# Altium schematic symbol library SX1257IWLTRT.SchLib: 2 symbols
Pins are listed as number, name and electrical type; pins without a type are passive.

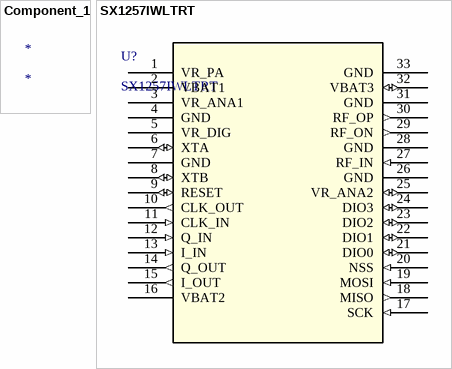
[diagram p0: symbols Component_1 to SX1257IWLTRT]

## Component_1
designator *

## SX1257IWLTRT
designator U?
No Description Available; Mfr_Name: Semtech; Type: DEV; Copyright: Copyright (C) 2023 Ultra Librarian. All rights reserved.; Manufacturer_Part_Number: SX1257IWLTRT; RefDes: RefDes
footprint MLPQW-32_SEM
pins: 1 VR_PA (power), 2 VBAT1 (power), 3 VR_ANA1 (power), 4 GND (power), 5 VR_DIG (power), 6 XTA (io), 7 GND (power), 8 XTB (io), 9 RESET (io), 10 CLK_OUT (out), 11 CLK_IN (in), 12 Q_IN (in), 13 I_IN (in), 14 Q_OUT (out), 15 I_OUT (out), 16 VBAT2 (power), 17 SCK (in), 18 MISO (out), 19 MOSI (in), 20 NSS (in), 21 DIO0 (io), 22 DIO1 (io), 23 DIO2 (io), 24 DIO3 (io), 25 VR_ANA2 (io), 26 GND (power), 27 RF_IN (in), 28 GND (power), 29 RF_ON (out), 30 RF_OP (out), 31 GND (power), 32 VBAT3 (io), 33 GND (power)